# Altium schematic symbol library K118UD1B.SchLib: 1 symbol
Pins are listed as number, name and electrical type; pins without a type are passive.

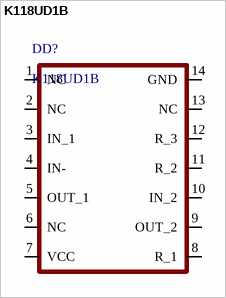
[diagram p0: symbol K118UD1B]

## K118UD1B
designator DD?
footprint DIP14
pins: 1 NC, 2 NC, 3 IN_1, 4 IN-, 5 OUT_1, 6 NC, 7 VCC, 8 R_1, 9 OUT_2, 10 IN_2, 11 R_2, 12 R_3, 13 NC, 14 GND